# Altium schematic symbol library ESC_SYMBOLS.SchLib: 42 symbols (part 2 of 2)
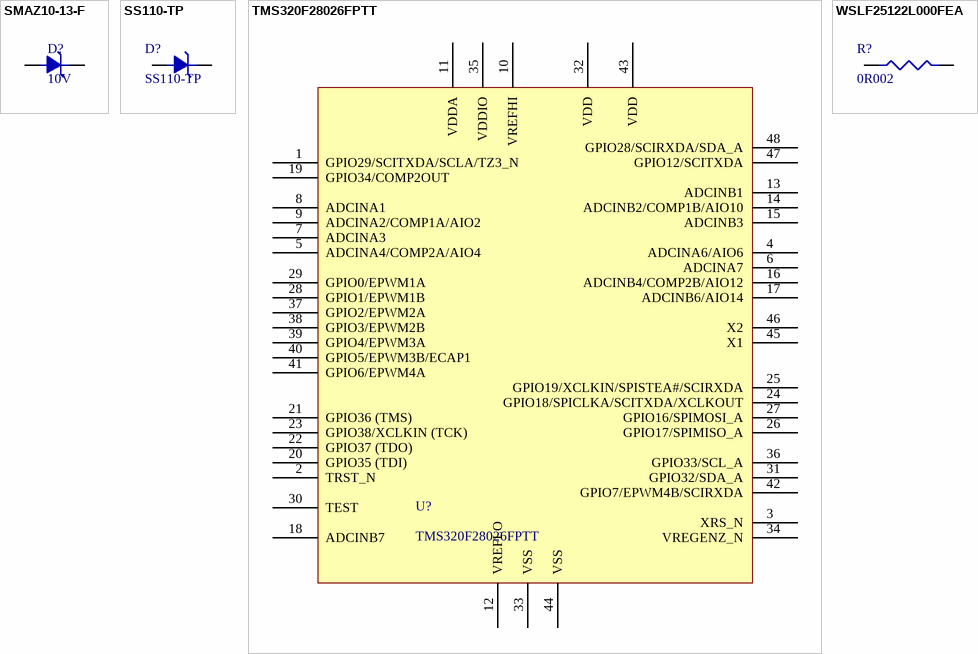
[diagram p2: symbols SMAZ10-13-F to WSLF25122L000FEA]

## TMS320F28026FPTT
designator U?
IC MCU 32-bit Piccolo F2802x C28x RISC 32KB Flash 3.3V 48-Pin LQFP T/R; Manufacturer: Texas Instruments; Min Supply Voltage: 2.97V; Max Supply Voltage: 3.63V; RAM Size: 12KB; Interface: I2C,SPI,UART,USART,SCI; Number of I/Os: 22; Number of Timers/Counters: 3; Frequency: 60MHz; Number of ADC Channels: 8; Oscillator Type: Internal; Data Bus Width: 32b; Max Frequency: 50MHz; Number of UART Channels: 1; Peripherals: Brown-out Detect/Reset,POR,PWM,WDT; Supplier 1: Digi-Key; Manufacturer Part Number: TMS320F28026FPTT; Stock 1: 202; Pricing 1: 1=7.19, 10=6.499, 100=5.3809 (USD); Mount: Surface Mount; Case/Package: LQFP; Number of Pins: 48; Min Operating Temperature: -40°C; Max Operating Temperature: 105°C; Packaging: Tape and Reel; Package Quantity: 250; Operating Supply Voltage: 3.3V; Number of Programmable I/O: 22; Memory Type: FLASH; Memory Size: 32KB; Radiation Hardening: No; REACH SVHC: No SVHC; Lead Free: Lead Free; ComponentLink1URL: https://datasheet.ciiva.com/6656/tms320f28020-6656816.pdf; ComponentLink1Description: https://datasheet.ciiva.com/6656/tms320f28020-6656816.pdf; ComponentLink2URL: https://datasheet.ciiva.com/23944/tms320f28026-23944835.pdf; ComponentLink2Description: https://datasheet.ciiva.com/23944/tms320f28026-23944835.pdf; ComponentLink3URL: https://datasheet.ciiva.com/28626/1827035-28626823.pdf; ComponentLink3Description: https://datasheet.ciiva.com/28626/1827035-28626823.pdf; ComponentLink4URL: https://datasheet.ciiva.com/29722/tms320f28026f-29722007.pdf; ComponentLink4Description: https://datasheet.ciiva.com/29722/tms320f28026f-29722007.pdf; ComponentLink5URL: https://datasheet.ciiva.com/29986/tms320f28026-29986743.pdf; ComponentLink5Description: https://datasheet.ciiva.com/29986/tms320f28026-29986743.pdf; ComponentLink6URL: https://datasheet.ciiva.com/29722/tms320f28026f-29722008.pdf; ComponentLink6Description: https://datasheet.ciiva.com/29722/tms320f28026f-29722008.pdf; ComponentLink7URL: https://datasheet.ciiva.com/29986/tms320f28026-29986744.pdf; ComponentLink7Description: https://datasheet.ciiva.com/29986/tms320f28026-29986744.pdf; ComponentLink8URL: https://datasheet.ciiva.com/16383/sprs523j-317502-16383180.pdf; ComponentLink8Description: https://datasheet.ciiva.com/16383/sprs523j-317502-16383180.pdf; Supplier Part Number 1: 296-36529-ND
footprint PQFP-48 (TSQFP, 48-Leads, Body 7.00x7.00mm, Pitch 0.50mm, IPC Medium Density)
pins: 1 GPIO29/SCITXDA/SCLA/TZ3_N, 2 TRST_N, 3 XRS_N, 4 ADCINA6/AIO6, 5 ADCINA4/COMP2A/AIO4, 6 ADCINA7, 7 ADCINA3, 8 ADCINA1, 9 ADCINA2/COMP1A/AIO2, 10 VREFHI, 11 VDDA, 12 VREFLO, 13 ADCINB1, 14 ADCINB2/COMP1B/AIO10, 15 ADCINB3, 16 ADCINB4/COMP2B/AIO12, 17 ADCINB6/AIO14, 18 ADCINB7, 19 GPIO34/COMP2OUT, 20 GPIO35 (TDI), 21 GPIO36 (TMS), 22 GPIO37 (TDO), 23 GPIO38/XCLKIN (TCK), 24 GPIO18/SPICLKA/SCITXDA/XCLKOUT, 25 GPIO19/XCLKIN/SPISTEA#/SCIRXDA, 26 GPIO17/SPIMISO_A, 27 GPIO16/SPIMOSI_A, 28 GPIO1/EPWM1B, 29 GPIO0/EPWM1A, 30 TEST, 31 GPIO32/SDA_A, 32 VDD, 33 VSS, 34 VREGENZ_N, 35 VDDIO, 36 GPIO33/SCL_A, 37 GPIO2/EPWM2A, 38 GPIO3/EPWM2B, 39 GPIO4/EPWM3A, 40 GPIO5/EPWM3B/ECAP1, 41 GPIO6/EPWM4A, 42 GPIO7/EPWM4B/SCIRXDA, 43 VDD, 44 VSS, 45 X1, 46 X2, 47 GPIO12/SCITXDA, 48 GPIO28/SCIRXDA/SDA_A

## WSLF25122L000FEA
designator R?, comment 0R002
RES SMD 0.002 OHM 1% 5W 2512; Manufacturer: Vishay Dale; Manufacturer Part Number: WSLF25122L000FEA; Resistance: 2mR; Temperature Coefficient: 70ppm/°C; Supplier 1: Digi-Key; Stock 1: 12139; Pricing 1: 1=0.78, 10=0.647, 25=0.5544, 50=0.499, 100=0.4343, 250=0.3881, 500=0.3142, 1000=0.2541 (USD); Case/Package: 2512; Case Code (Metric): 6432; Case Code (Imperial): 2512; Min Operating Temperature: -65°C; Max Operating Temperature: 170°C; Packaging: Tape and Reel; Composition: Metal Element; Number of Terminations: 2; Tolerance: 1%; Max Power Dissipation: 5W; Length: 0.25inch; Height: 0.024inch; Width: 0.125inch; Lead Free: Lead Free; Supplier Part Number 1: 541-3126-1-ND
footprint R2512
pins: 1, 2